# EAGLE library part OPTICAL-TCS3414CS(BGA6) (library Seeed-OPL-sensor)
314020006
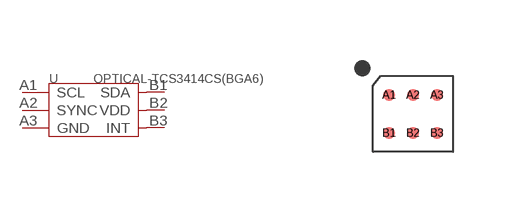
[diagram p18: symbol with the pads of BGA6-0.6-2.0X1.9MM; footprint BGA6-0.6-2.0X1.9MM]

Designator prefix U

## OPTICAL-TCS3414CS(BGA6) (MPN: TCS3414CS; VALUE: TCS3414CS)  [BGA6-0.6-2.0X1.9MM]
A1  SCL
A2  SYNC  in
A3  GND  sup
B1  SDA
B2  VDD  pwr
B3  INT  out

## Footprint BGA6-0.6-2.0X1.9MM (pad centres in mm)
http://www.taosinc.com/getfile.aspx?type=press&file=tcs3414cs_e45.pdf
smd 0.3 x 0.3: A1 -0.6,0.475; A2 0,0.475; A3 0.6,0.475; B1 -0.6,-0.475; B2 0,-0.475; B3 0.6,-0.475